# Altium footprint library con-wago.PCBLIB: 167 footprints (part 6 of 11)
Each footprint in its own frame and in the unit in brackets; x right, y up, seen from the top. Pads: shape width x height; smd on the part's side, far side on the other; paste and mask are expansions set on the pad; w line width, h text height; cw(c..) or ccw(c..) is an arc to the next point about the centre after c.
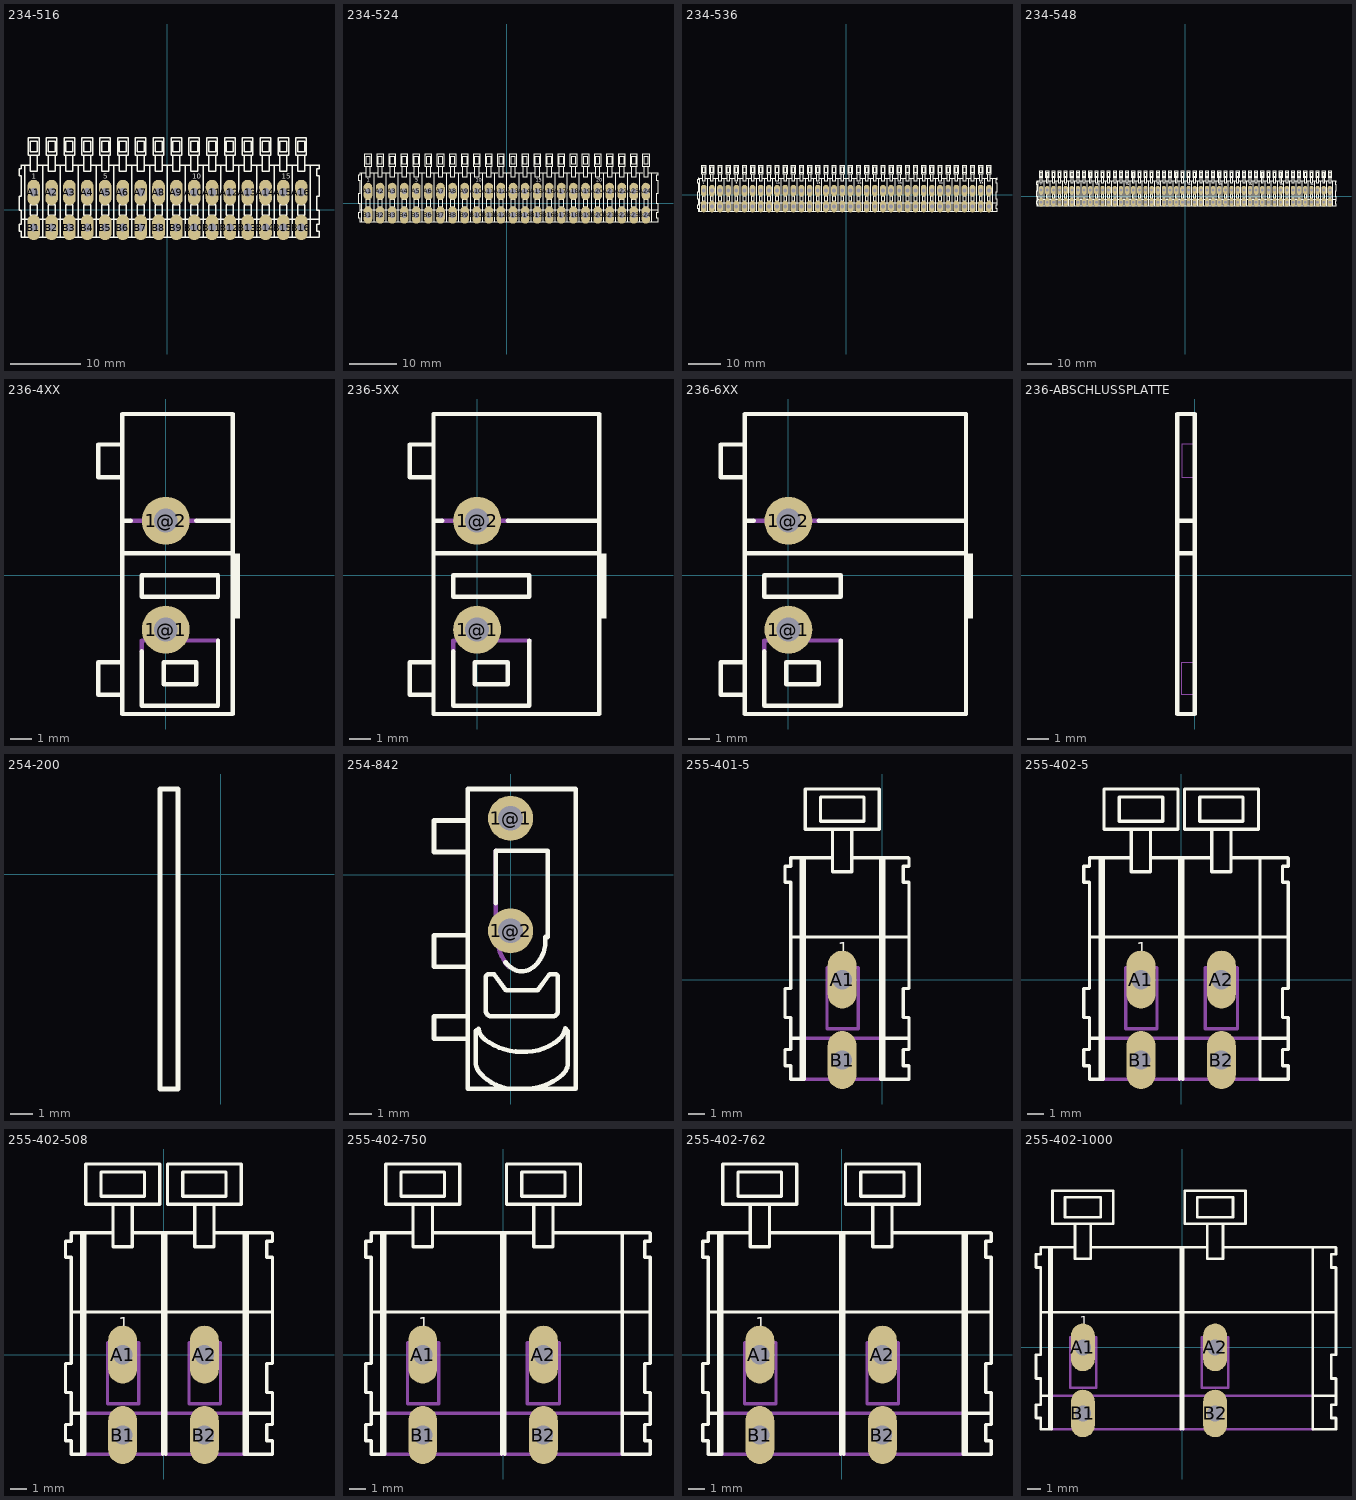
[diagram p5: the footprints below, top view; thin cyan lines are the x and y axes]

## 234-516 [mil]
pads (32):
  oval 70.86x141.72 hole 47.24: A1(-750,98.43) A2(-650,98.43) A3(-550,98.43) A4(-450,98.43) A5(-350,98.43) A6(-250,98.43) A7(-150,98.43) A8(-50,98.43) A9(50,98.43) A10(150,98.43) A11(250,98.43) A12(350,98.43) A13(450,98.43) A14(550,98.43) A15(650,98.43) A16(750,98.43) B1(-750,-98.43) B2(-650,-98.43) B3(-550,-98.43) B4(-450,-98.43) B5(-350,-98.43) B6(-250,-98.43) B7(-150,-98.43) B8(-50,-98.43) B9(50,-98.43) B10(150,-98.43) B11(250,-98.43) B12(350,-98.43) B13(450,-98.43) B14(550,-98.43) B15(650,-98.43) B16(750,-98.43)
Top Overlay:
  drawing of 337 lines, arcs and shapes, not listed
  text "1" at -759.84,164.17 h49.6
  text "5" at -359.84,164.17 h49.6
  text "10" at 140.16,164.17 h49.6
  text "15" at 640.16,164.17 h49.6

## 234-524 [mil]
pads (48):
  oval 70.86x141.72 hole 47.24: A1(-1150,98.43) A2(-1050,98.43) A3(-950,98.43) A4(-850,98.43) A5(-750,98.43) A6(-650,98.43) A7(-550,98.43) A8(-450,98.43) A9(-350,98.43) A10(-250,98.43) A11(-150,98.43) A12(-50,98.43) A13(50,98.43) A14(150,98.43) A15(250,98.43) A16(350,98.43) A17(450,98.43) A18(550,98.43) A19(650,98.43) A20(750,98.43) A21(850,98.43) A22(950,98.43) A23(1050,98.43) A24(1150,98.43) B1(-1150,-98.43) B2(-1050,-98.43) B3(-950,-98.43) B4(-850,-98.43) B5(-750,-98.43) B6(-650,-98.43) B7(-550,-98.43) B8(-450,-98.43) B9(-350,-98.43) B10(-250,-98.43) B11(-150,-98.43) B12(-50,-98.43) B13(50,-98.43) B14(150,-98.43) B15(250,-98.43) B16(350,-98.43) B17(450,-98.43) B18(550,-98.43) B19(650,-98.43) B20(750,-98.43) B21(850,-98.43) B22(950,-98.43) B23(1050,-98.43) B24(1150,-98.43)
Top Overlay:
  drawing of 489 lines, arcs and shapes, not listed
  text "1" at -1159.84,164.17 h49.6
  text "5" at -759.84,164.17 h49.6
  text "10" at -259.84,164.17 h49.6
  text "15" at 240.16,164.17 h49.6
  text "20" at 740.16,164.17 h49.6

## 234-536 [mil]
pads (72):
  oval 70.86x141.72 hole 47.24: A1(-1750,48.43) A2(-1650,48.43) A3(-1550,48.43) A4(-1450,48.43) A5(-1350,48.43) A6(-1250,48.43) A7(-1150,48.43) A8(-1050,48.43) A9(-950,48.43) A10(-850,48.43) A11(-750,48.43) A12(-650,48.43) A13(-550,48.43) A14(-450,48.43) A15(-350,48.43) A16(-250,48.43) A17(-150,48.43) A18(-50,48.43) A19(50,48.43) A20(150,48.43) A21(250,48.43) A22(350,48.43) A23(450,48.43) A24(550,48.43) A25(650,48.43) A26(750,48.43) A27(850,48.43) A28(950,48.43) A29(1050,48.43) A30(1150,48.43) A31(1250,48.43) A32(1350,48.43) A33(1450,48.43) A34(1550,48.43) A35(1650,48.43) A36(1750,48.43) B1(-1750,-148.43) B2(-1650,-148.43) B3(-1550,-148.43) B4(-1450,-148.43) B5(-1350,-148.43) B6(-1250,-148.43) B7(-1150,-148.43) B8(-1050,-148.43) B9(-950,-148.43) B10(-850,-148.43) B11(-750,-148.43) B12(-650,-148.43) B13(-550,-148.43) B14(-450,-148.43) B15(-350,-148.43) B16(-250,-148.43) B17(-150,-148.43) B18(-50,-148.43) B19(50,-148.43) B20(150,-148.43) B21(250,-148.43) B22(350,-148.43) B23(450,-148.43) B24(550,-148.43) B25(650,-148.43) B26(750,-148.43) B27(850,-148.43) B28(950,-148.43) B29(1050,-148.43) B30(1150,-148.43) B31(1250,-148.43) B32(1350,-148.43) B33(1450,-148.43) B34(1550,-148.43) B35(1650,-148.43) B36(1750,-148.43)
Top Overlay:
  drawing of 717 lines, arcs and shapes, not listed
  text "1" at -1759.84,114.17 h49.6
  text "5" at -1359.84,114.17 h49.6
  text "10" at -859.84,114.17 h49.6
  text "15" at -359.84,114.17 h49.6
  text "20" at 140.16,114.17 h49.6
  text "25" at 640.16,114.17 h49.6
  text "30" at 1140.16,114.17 h49.6
  text "35" at 1640.16,114.17 h49.6

## 234-548 [mil]
pads (96):
  oval 70.86x141.72 hole 47.24: A1(-2350,98.43) A2(-2250,98.43) A3(-2150,98.43) A4(-2050,98.43) A5(-1950,98.43) A6(-1850,98.43) A7(-1750,98.43) A8(-1650,98.43) A9(-1550,98.43) A10(-1450,98.43) A11(-1350,98.43) A12(-1250,98.43) A13(-1150,98.43) A14(-1050,98.43) A15(-950,98.43) A16(-850,98.43) A17(-750,98.43) A18(-650,98.43) A19(-550,98.43) A20(-450,98.43) A21(-350,98.43) A22(-250,98.43) A23(-150,98.43) A24(-50,98.43) A25(50,98.43) A26(150,98.43) A27(250,98.43) A28(350,98.43) A29(450,98.43) A30(550,98.43) A31(650,98.43) A32(750,98.43) A33(850,98.43) A34(950,98.43) A35(1050,98.43) A36(1150,98.43) A37(1250,98.43) A38(1350,98.43) A39(1450,98.43) A40(1550,98.43) A41(1650,98.43) A42(1750,98.43) A43(1850,98.43) A44(1950,98.43) A45(2050,98.43) A46(2150,98.43) A47(2250,98.43) A48(2350,98.43) B1(-2350,-98.43) B2(-2250,-98.43) B3(-2150,-98.43) B4(-2050,-98.43) B5(-1950,-98.43) B6(-1850,-98.43) B7(-1750,-98.43) B8(-1650,-98.43) B9(-1550,-98.43) B10(-1450,-98.43) B11(-1350,-98.43) B12(-1250,-98.43) B13(-1150,-98.43) B14(-1050,-98.43) B15(-950,-98.43) B16(-850,-98.43) B17(-750,-98.43) B18(-650,-98.43) B19(-550,-98.43) B20(-450,-98.43) B21(-350,-98.43) B22(-250,-98.43) B23(-150,-98.43) B24(-50,-98.43) B25(50,-98.43) B26(150,-98.43) B27(250,-98.43) B28(350,-98.43) B29(450,-98.43) B30(550,-98.43) B31(650,-98.43) B32(750,-98.43) B33(850,-98.43) B34(950,-98.43) B35(1050,-98.43) B36(1150,-98.43) B37(1250,-98.43) B38(1350,-98.43) B39(1450,-98.43) B40(1550,-98.43) B41(1650,-98.43) B42(1750,-98.43) B43(1850,-98.43) B44(1950,-98.43) B45(2050,-98.43) B46(2150,-98.43) B47(2250,-98.43) B48(2350,-98.43)
Top Overlay:
  drawing of 945 lines, arcs and shapes, not listed
  text "1" at -2359.84,164.17 h49.6
  text "5" at -1959.84,164.17 h49.6
  text "10" at -1459.84,164.17 h49.6
  text "15" at -959.84,164.17 h49.6
  text "20" at -459.84,164.17 h49.6
  text "25" at 40.16,164.17 h49.6
  text "30" at 540.16,164.17 h49.6
  text "35" at 1040.16,164.17 h49.6
  text "40" at 1540.16,164.17 h49.6
  text "45" at 2040.16,164.17 h49.6

## 236-4XX [mil]
pads (2):
  round 86.61 hole 43.31: 1@1(0,-98.43) 1@2(0,98.43)
Top Overlay:
  rectangle: 122.05,-78.74 133.86,39.37
  lines w8: -82.68,-216.54 -122.05,-216.54 -122.05,-157.48 -82.68,-157.48 ; -82.68,177.17 -122.05,177.17 -122.05,236.22 -82.68,236.22 ; -75.79,39.37 119.09,39.37 ; -75.79,98.43 -62.99,98.43 ; -43.31,-137.8 -43.31,-236.22 94.49,-236.22 94.49,-118.11 ; 55.12,98.43 119.09,98.43 ; -78.74,-250.98 121.06,-250.98 121.06,291.34 -78.74,291.34 -78.74,-250.98 ; -43.31,-39.37 94.49,-39.37 94.49,0 -43.31,0 -43.31,-39.37 ; -3.94,-196.85 -3.94,-157.48 55.12,-157.48 55.12,-196.85 -3.94,-196.85
Mechanical 16:
  lines w8: -62.99,98.43 55.12,98.43 ; -43.31,-137.8 -43.31,-118.11 94.49,-118.11

## 236-5XX [mil]
pads (2):
  round 86.61 hole 43.31: 1@1(0,-98.43) 1@2(0,98.43)
Top Overlay:
  rectangle: 222.05,-78.74 233.86,39.37
  lines w8: -82.68,-216.54 -122.05,-216.54 -122.05,-157.48 -82.68,-157.48 ; -82.68,177.17 -122.05,177.17 -122.05,236.22 -82.68,236.22 ; -75.79,39.37 219.09,39.37 ; -75.79,98.43 -62.99,98.43 ; -43.31,-137.8 -43.31,-236.22 94.49,-236.22 94.49,-118.11 ; 55.12,98.43 219.09,98.43 ; -78.74,-250.98 221.06,-250.98 221.06,291.34 -78.74,291.34 -78.74,-250.98 ; -43.31,-39.37 94.49,-39.37 94.49,0 -43.31,0 -43.31,-39.37 ; -3.94,-196.85 -3.94,-157.48 55.12,-157.48 55.12,-196.85 -3.94,-196.85
Mechanical 16:
  lines w8: -62.99,98.43 55.12,98.43 ; -43.31,-137.8 -43.31,-118.11 94.49,-118.11

## 236-6XX [mil]
pads (2):
  round 86.61 hole 43.31: 1@1(0,-98.43) 1@2(0,98.43)
Top Overlay:
  rectangle: 322.05,-78.74 333.86,39.37
  lines w8: -82.68,-216.54 -122.05,-216.54 -122.05,-157.48 -82.68,-157.48 ; -82.68,177.17 -122.05,177.17 -122.05,236.22 -82.68,236.22 ; -75.79,39.37 319.09,39.37 ; -75.79,98.43 -62.99,98.43 ; -43.31,-137.8 -43.31,-236.22 94.49,-236.22 94.49,-118.11 ; 55.12,98.43 319.09,98.43 ; -78.74,-250.98 321.06,-250.98 321.06,291.34 -78.74,291.34 -78.74,-250.98 ; -43.31,-39.37 94.49,-39.37 94.49,0 -43.31,0 -43.31,-39.37 ; -3.94,-196.85 -3.94,-157.48 55.12,-157.48 55.12,-196.85 -3.94,-196.85
Mechanical 16:
  lines w8: -62.99,98.43 55.12,98.43 ; -43.31,-137.8 -43.31,-118.11 94.49,-118.11

## 236-ABSCHLUSSPLATTE [mil]
Top Overlay:
  lines w8: -28.74,98.43 -1.97,98.43 ; -27.95,39.37 -0.98,39.37 ; -31.5,-250.98 0,-250.98 0,291.34 -31.5,291.34 -31.5,-250.98
Mechanical 16:
  lines w0: -3.94,-216.54 -23.62,-216.54 -23.62,-157.48 -3.94,-157.48 ; -3.94,177.17 -23.62,177.17 -23.62,236.22 -3.94,236.22

## 254-200 [mil]
Top Overlay:
  lines w8: -106.3,149.61 -74.8,149.61 ; -106.3,149.61 -106.3,-375.39 -74.8,-375.39 -74.8,149.61 ; -106.3,149.61 -74.8,149.61

## 254-842 [mm]
pads (2):
  round 2 hole 1.1: 1@1(0,2.5) 1@2(0,-2.5)
Top Overlay:
  lines w0.203: -0.65,-1.275 -0.65,1.05 1.65,1.05 1.65,-2.775 1.575,-2.775 1.55,-2.775 1.55,-2.975 cw(c0.122,-2.976) 1.45,-3.5 cw(c-0.124,-2.877) 1.225,-3.9 cw(c0.359,-3.244) 0.875,-4.2 cw(c0.49,-3.509) 0.475,-4.3 cw(c0.485,-3.602) 0.125,-4.2 cw(c0.641,-3.244) -0.225,-3.9 ; -1.9,-7.3 -1.9,-9.525 0.25,-9.525 ; -1.9,-7.3 -3.4,-7.3 -3.4,-6.3 -1.9,-6.3 ; -1.9,-7.3 -1.9,-6.3 ; -1.9,-6.3 -1.9,-4.1 ; -1.9,-4.1 -3.4,-4.1 -3.4,-2.7 -1.925,-2.7 -1.9,-2.7 -1.9,-2.675 ; -1.9,-4.1 -1.9,-2.675 ; -1.9,-2.675 -1.9,1 ; -1.9,1 -3.4,1 -3.4,2.4 -1.9,2.4 -1.9,2.425 ; -1.9,1 -1.9,2.425 ; -1.9,2.425 -1.9,3.8 2.9,3.8 2.9,-9.525 0.5,-9.525 ; 0.25,-9.525 0.5,-9.525 ; 0.25,-9.525 cw(c0.197,-7.46) -1.375,-8.8 cw(c-0.818,-8.325) -1.55,-8.325 -1.55,-6.95 -1.425,-6.85 -1.4,-6.95 ccw(c-0.771,-6.793) -1.175,-7.3 ccw(c0.469,-5.238) 0.475,-7.875 ccw(c0.627,-5.511) 2.15,-7.325 ccw(c1.658,-6.74) 2.4,-6.925 2.425,-6.825 2.55,-6.95 2.55,-8.35 cw(c1.82,-8.35) 2.3,-8.9 cw(c0.625,-6.981) 0.5,-9.525 ; -1.1,-6.075 -1.1,-4.575 cw(c-0.948,-4.575) -0.925,-4.425 ccw(c-0.85,-3.94) -0.775,-4.425 cw(c-0.768,-4.473) -0.725,-4.45 -0.2,-5.15 1.2,-5.15 1.7,-4.475 cw(c1.803,-4.551) 1.825,-4.425 1.975,-4.425 cw(c1.975,-4.55) 2.1,-4.55 2.1,-6.075 cw(c1.875,-6.075) 1.875,-6.3 -0.825,-6.3 cw(c-0.847,-6.046) -1.1,-6.075
Mechanical 16:
  lines w0.203: -0.65,1.05 -0.65,-2.775 -0.575,-2.775 -0.55,-2.775 -0.55,-2.975 ccw(c0.878,-2.976) -0.45,-3.5 ccw(c1.124,-2.877) -0.225,-3.9
Mechanical 30:
  lines w0: -0.649,-2.955 -0.647,-2.998 -0.646,-3.02 -0.644,-3.042 -0.64,-3.085 -0.635,-3.128 -0.629,-3.171 -0.623,-3.214 -0.615,-3.257 -0.611,-3.278 -0.606,-3.299 -0.597,-3.341 -0.586,-3.382 ; -0.325,-3.935 -0.313,-3.951 -0.301,-3.966 -0.277,-3.996 -0.252,-4.025 -0.226,-4.053 -0.2,-4.08 -0.173,-4.106 -0.16,-4.119 -0.146,-4.131 -0.118,-4.155 -0.089,-4.178

## 255-401-5 [mm]
pads (2):
  oval 1.8x3.6 hole 1.2: A1(-2.5,0) B1(-2.5,-5)
Top Overlay:
  lines w0.203: -5.7,-3.65 -5,-3.65 ; -5.65,2.65 -0.1,2.65 ; -5.05,7.55 -5.05,-6.2 ; -4.85,7.55 -4.85,-6.2 -5.05,-6.2 ; -3.125,7.575 -5.7,7.575 -5.7,7.05 -6.05,7.05 -6.05,6.05 -5.7,6.05 -5.7,-0.55 -6.05,-0.55 -6.05,-2.35 -5.7,-2.35 -5.7,-4.35 -6.05,-4.35 -6.05,-5.35 -5.7,-5.35 -5.7,-6.2 -5.05,-6.2 ; -1.875,7.575 1.625,7.575 ; -0.1,7.55 -0.1,2.65 ; -0.05,-3.65 1.65,-3.65 ; 0.1,-6.2 0.1,7.55 ; 1.6,2.65 -0.1,2.65 ; 1.65,7.55 1.65,7.05 1.3,7.05 1.3,6.05 1.65,6.05 1.65,-0.55 1.3,-0.55 1.3,-2.35 1.65,-2.35 1.65,-3.65 ; -3.1,9.35 -4.8,9.35 -4.8,11.85 -0.2,11.85 -0.2,9.35 -1.9,9.35 ; -3.1,9.35 -1.9,9.35 ; -3.1,9.35 -3.1,6.7 -1.9,6.7 -1.9,9.35 ; -0.1,2.65 -0.1,-6.2 1.65,-6.2 1.65,-5.35 1.3,-5.35 1.3,-4.35 1.65,-4.35 1.65,-3.65 ; -3.85,9.85 -3.85,11.35 -1.15,11.35 -1.15,9.85 -3.85,9.85
  text "1" at -2.75,1.35 h1.26
Mechanical 16:
  lines w0.203: -5,-3.65 -0.1,-3.65 ; -4.85,-6.2 -0.1,-6.2 ; -3.45,-3.05 -3.45,0.75 -1.5,0.75 -1.5,-3.05 -3.45,-3.05

## 255-402-5 [mm]
pads (4):
  oval 1.8x3.6 hole 1.2: A1(-2.5,0) A2(2.5,0) B1(-2.5,-5) B2(2.5,-5)
Top Overlay:
  lines w0.203: -5.7,-3.65 -5,-3.65 ; -5.65,2.65 6.6,2.65 ; -5.05,7.55 -5.05,-6.2 ; -4.85,7.55 -4.85,-6.2 -5.05,-6.2 ; -3.125,7.575 -5.7,7.575 -5.7,7.05 -6.05,7.05 -6.05,6.05 -5.7,6.05 -5.7,-0.55 -6.05,-0.55 -6.05,-2.35 -5.7,-2.35 -5.7,-4.35 -6.05,-4.35 -6.05,-5.35 -5.7,-5.35 -5.7,-6.2 -5.05,-6.2 ; -1.825,7.575 1.875,7.575 ; -0.1,-6.2 -0.1,7.55 ; 0.1,-6.2 0.1,7.55 ; 3.125,7.575 6.625,7.575 ; 4.9,7.55 4.9,-6.2 6.65,-6.2 6.65,-5.35 6.3,-5.35 6.3,-4.35 6.65,-4.35 6.65,-3.65 ; 4.95,-3.65 6.65,-3.65 ; 6.65,7.55 6.65,7.05 6.3,7.05 6.3,6.05 6.65,6.05 6.65,-0.55 6.3,-0.55 6.3,-2.35 6.65,-2.35 6.65,-3.65 ; -3.1,9.35 -4.8,9.35 -4.8,11.85 -0.2,11.85 -0.2,9.35 -1.9,9.35 ; -3.1,9.35 -1.9,9.35 ; -3.1,9.35 -3.1,6.7 -1.9,6.7 -1.9,9.35 ; 1.9,9.35 0.2,9.35 0.2,11.85 4.8,11.85 4.8,9.35 3.1,9.35 ; 1.9,9.35 3.1,9.35 ; 1.9,9.35 1.9,6.7 3.1,6.7 3.1,9.35 ; -3.85,9.85 -3.85,11.35 -1.15,11.35 -1.15,9.85 -3.85,9.85 ; 1.15,9.85 1.15,11.35 3.85,11.35 3.85,9.85 1.15,9.85
  text "1" at -2.75,1.35 h1.26
Mechanical 16:
  lines w0.203: -5,-3.65 4.9,-3.65 ; -4.85,-6.2 4.9,-6.2 ; -3.45,-3.05 -3.45,0.75 -1.5,0.75 -1.5,-3.05 -3.45,-3.05 ; 1.5,-3.05 1.5,0.75 3.5,0.75 3.5,-3.05 1.5,-3.05

## 255-402-508 [mm]
pads (4):
  oval 1.8x3.6 hole 1.2: A1(-2.54,0) A2(2.54,0) B1(-2.54,-5) B2(2.54,-5)
Top Overlay:
  lines w0.203: -5.74,-3.65 -5.04,-3.65 ; -5.69,2.65 6.72,2.65 ; -5.09,7.55 -5.09,-6.2 ; -4.89,7.55 -4.89,-6.2 -5.09,-6.2 ; -3.165,7.575 -5.74,7.575 -5.74,7.05 -6.09,7.05 -6.09,6.05 -5.74,6.05 -5.74,-0.55 -6.09,-0.55 -6.09,-2.35 -5.74,-2.35 -5.74,-4.35 -6.09,-4.35 -6.09,-5.35 -5.74,-5.35 -5.74,-6.2 -5.09,-6.2 ; -1.915,7.575 1.919,7.575 ; -0.06,-6.2 -0.06,7.55 ; 0.14,-6.2 0.14,7.55 ; 3.165,7.575 6.745,7.575 ; 5.02,7.55 5.02,-6.2 6.77,-6.2 6.77,-5.35 6.42,-5.35 6.42,-4.35 6.77,-4.35 6.77,-3.65 ; 5.07,-3.65 6.77,-3.65 ; 5.22,-6.2 5.22,7.55 ; 6.77,7.55 6.77,7.05 6.42,7.05 6.42,6.05 6.77,6.05 6.77,-0.55 6.42,-0.55 6.42,-2.35 6.77,-2.35 6.77,-3.65 ; -3.14,9.35 -4.84,9.35 -4.84,11.85 -0.24,11.85 -0.24,9.35 -1.94,9.35 ; -3.14,9.35 -1.94,9.35 ; -3.14,9.35 -3.14,6.7 -1.94,6.7 -1.94,9.35 ; 1.94,9.35 0.24,9.35 0.24,11.85 4.84,11.85 4.84,9.35 3.14,9.35 ; 1.94,9.35 3.14,9.35 ; 1.94,9.35 1.94,6.7 3.14,6.7 3.14,9.35 ; -3.89,9.85 -3.89,11.35 -1.19,11.35 -1.19,9.85 -3.89,9.85 ; 1.19,9.85 1.19,11.35 3.89,11.35 3.89,9.85 1.19,9.85
  text "1" at -2.79,1.35 h1.26
Mechanical 16:
  lines w0.203: -5.04,-3.65 5.02,-3.65 ; -4.89,-6.2 5.02,-6.2 ; -3.49,-3.05 -3.49,0.75 -1.54,0.75 -1.54,-3.05 -3.49,-3.05 ; 1.59,-3.05 1.59,0.75 3.54,0.75 3.54,-3.05 1.59,-3.05

## 255-402-750 [mm]
pads (4):
  oval 1.8x3.6 hole 1.2: A1(-5,0) A2(2.5,0) B1(-5,-5) B2(2.5,-5)
Top Overlay:
  lines w0.203: -8.2,-3.65 -7.5,-3.65 ; -8.15,2.65 9.1,2.65 ; -7.55,7.55 -7.55,-6.2 ; -7.35,7.55 -7.35,-6.2 -7.55,-6.2 ; -5.625,7.575 -8.2,7.575 -8.2,7.05 -8.55,7.05 -8.55,6.05 -8.2,6.05 -8.2,-0.55 -8.55,-0.55 -8.55,-2.35 -8.2,-2.35 -8.2,-4.35 -8.55,-4.35 -8.55,-5.35 -8.2,-5.35 -8.2,-6.2 -7.55,-6.2 ; -4.325,7.575 1.875,7.575 ; -0.1,-6.2 -0.1,7.55 ; 0.1,-6.2 0.1,7.55 ; 3.125,7.575 9.125,7.575 ; 7.4,7.55 7.4,-6.2 9.15,-6.2 9.15,-5.35 8.8,-5.35 8.8,-4.35 9.15,-4.35 9.15,-3.65 ; 7.45,-3.65 9.15,-3.65 ; 9.15,7.55 9.15,7.05 8.8,7.05 8.8,6.05 9.15,6.05 9.15,-0.55 8.8,-0.55 8.8,-2.35 9.15,-2.35 9.15,-3.65 ; -5.6,9.35 -7.3,9.35 -7.3,11.85 -2.7,11.85 -2.7,9.35 -4.4,9.35 ; -5.6,9.35 -4.4,9.35 ; -5.6,9.35 -5.6,6.7 -4.4,6.7 -4.4,9.35 ; 1.9,9.35 0.2,9.35 0.2,11.85 4.8,11.85 4.8,9.35 3.1,9.35 ; 1.9,9.35 3.1,9.35 ; 1.9,9.35 1.9,6.7 3.1,6.7 3.1,9.35 ; -6.35,9.85 -6.35,11.35 -3.65,11.35 -3.65,9.85 -6.35,9.85 ; 1.15,9.85 1.15,11.35 3.85,11.35 3.85,9.85 1.15,9.85
  text "1" at -5.25,1.35 h1.26
Mechanical 16:
  lines w0.203: -7.5,-3.65 7.4,-3.65 ; -7.35,-6.2 7.4,-6.2 ; -5.95,-3.05 -5.95,0.75 -4,0.75 -4,-3.05 -5.95,-3.05 ; 1.5,-3.05 1.5,0.75 3.5,0.75 3.5,-3.05 1.5,-3.05

## 255-402-762 [mm]
pads (4):
  oval 1.8x3.6 hole 1.2: A1(-5.08,0) A2(2.54,0) B1(-5.08,-5) B2(2.54,-5)
Top Overlay:
  lines w0.203: -8.28,-3.65 -7.58,-3.65 ; -8.23,2.65 9.26,2.65 ; -7.63,7.55 -7.63,-6.2 ; -7.43,7.55 -7.43,-6.2 -7.63,-6.2 ; -5.705,7.575 -8.28,7.575 -8.28,7.05 -8.63,7.05 -8.63,6.05 -8.28,6.05 -8.28,-0.55 -8.63,-0.55 -8.63,-2.35 -8.28,-2.35 -8.28,-4.35 -8.63,-4.35 -8.63,-5.35 -8.28,-5.35 -8.28,-6.2 -7.63,-6.2 ; -4.455,7.575 1.919,7.575 ; -0.06,-6.2 -0.06,7.55 ; 0.14,-6.2 0.14,7.55 ; 3.165,7.575 9.285,7.575 ; 7.56,7.55 7.56,-6.2 9.31,-6.2 9.31,-5.35 8.96,-5.35 8.96,-4.35 9.31,-4.35 9.31,-3.65 ; 7.61,-3.65 9.31,-3.65 ; 7.76,-6.2 7.76,7.55 ; 9.31,7.55 9.31,7.05 8.96,7.05 8.96,6.05 9.31,6.05 9.31,-0.55 8.96,-0.55 8.96,-2.35 9.31,-2.35 9.31,-3.65 ; -5.68,9.35 -7.38,9.35 -7.38,11.85 -2.78,11.85 -2.78,9.35 -4.48,9.35 ; -5.68,9.35 -4.48,9.35 ; -5.68,9.35 -5.68,6.7 -4.48,6.7 -4.48,9.35 ; 1.94,9.35 0.24,9.35 0.24,11.85 4.84,11.85 4.84,9.35 3.14,9.35 ; 1.94,9.35 3.14,9.35 ; 1.94,9.35 1.94,6.7 3.14,6.7 3.14,9.35 ; -6.43,9.85 -6.43,11.35 -3.73,11.35 -3.73,9.85 -6.43,9.85 ; 1.19,9.85 1.19,11.35 3.89,11.35 3.89,9.85 1.19,9.85
  text "1" at -5.33,1.35 h1.26
Mechanical 16:
  lines w0.203: -7.58,-3.65 7.56,-3.65 ; -7.43,-6.2 7.56,-6.2 ; -6.03,-3.05 -6.03,0.75 -4.08,0.75 -4.08,-3.05 -6.03,-3.05 ; 1.59,-3.05 1.59,0.75 3.54,0.75 3.54,-3.05 1.59,-3.05

## 255-402-1000 [mm]
pads (4):
  oval 1.8x3.6 hole 1.2: A1(-7.5,0) A2(2.5,0) B1(-7.5,-5) B2(2.5,-5)
Top Overlay:
  lines w0.203: -10.7,-3.65 -10,-3.65 ; -10.65,2.65 11.6,2.65 ; -10.05,7.55 -10.05,-6.2 ; -9.85,7.55 -9.85,-6.2 -10.05,-6.2 ; -8.125,7.575 -10.7,7.575 -10.7,7.05 -11.05,7.05 -11.05,6.05 -10.7,6.05 -10.7,-0.55 -11.05,-0.55 -11.05,-2.35 -10.7,-2.35 -10.7,-4.35 -11.05,-4.35 -11.05,-5.35 -10.7,-5.35 -10.7,-6.2 -10.05,-6.2 ; -6.825,7.575 1.875,7.575 ; -0.1,-6.2 -0.1,7.55 ; 0.1,-6.2 0.1,7.55 ; 3.125,7.575 11.625,7.575 ; 9.9,7.55 9.9,-6.2 11.65,-6.2 11.65,-5.35 11.3,-5.35 11.3,-4.35 11.65,-4.35 11.65,-3.65 ; 9.95,-3.65 11.65,-3.65 ; 11.65,7.55 11.65,7.05 11.3,7.05 11.3,6.05 11.65,6.05 11.65,-0.55 11.3,-0.55 11.3,-2.35 11.65,-2.35 11.65,-3.65 ; -8.1,9.35 -9.8,9.35 -9.8,11.85 -5.2,11.85 -5.2,9.35 -6.9,9.35 ; -8.1,9.35 -6.9,9.35 ; -8.1,9.35 -8.1,6.7 -6.9,6.7 -6.9,9.35 ; 1.9,9.35 0.2,9.35 0.2,11.85 4.8,11.85 4.8,9.35 3.1,9.35 ; 1.9,9.35 3.1,9.35 ; 1.9,9.35 1.9,6.7 3.1,6.7 3.1,9.35 ; -8.85,9.85 -8.85,11.35 -6.15,11.35 -6.15,9.85 -8.85,9.85 ; 1.15,9.85 1.15,11.35 3.85,11.35 3.85,9.85 1.15,9.85
  text "1" at -7.75,1.35 h1.26
Mechanical 16:
  lines w0.203: -10,-3.65 9.9,-3.65 ; -9.85,-6.2 9.9,-6.2 ; -8.45,-3.05 -8.45,0.75 -6.5,0.75 -6.5,-3.05 -8.45,-3.05 ; 1.5,-3.05 1.5,0.75 3.5,0.75 3.5,-3.05 1.5,-3.05